# Altium schematic symbol library MAL214699103E3.SchLib: 1 symbol
Pins are listed as number, name and electrical type; pins without a type are passive.

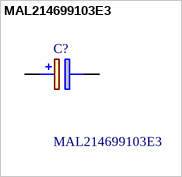
[diagram p0: symbol MAL214699103E3]

## MAL214699103E3
designator C?
Vishay Extreme 100uF 50 V Aluminium Electrolytic Capacitor 1010, 146 CTI Series 1000 h, 1500 h, 150000 h; Geometry.Height: 10.5mm; Mouser Part Number: 594-MAL214699103E3; Mouser Price/Stock: https://www.mouser.co.uk/ProductDetail/Vishay-BC-Components/MAL214699103E3?qs=Ep9Lwju7gVqGv9YdqsYr5A%3D%3D; Manufacturer_Name: Vishay; Manufacturer_Part_Number: MAL214699103E3; Datasheet Link: https://www.vishay.com/docs/28403/146cti.pdf
footprint CAPAE1000X1050N
pins: 1 +, 2 -